# Altium schematic symbol library WR-BHD.SchLib: 220 symbols (part 3 of 5)
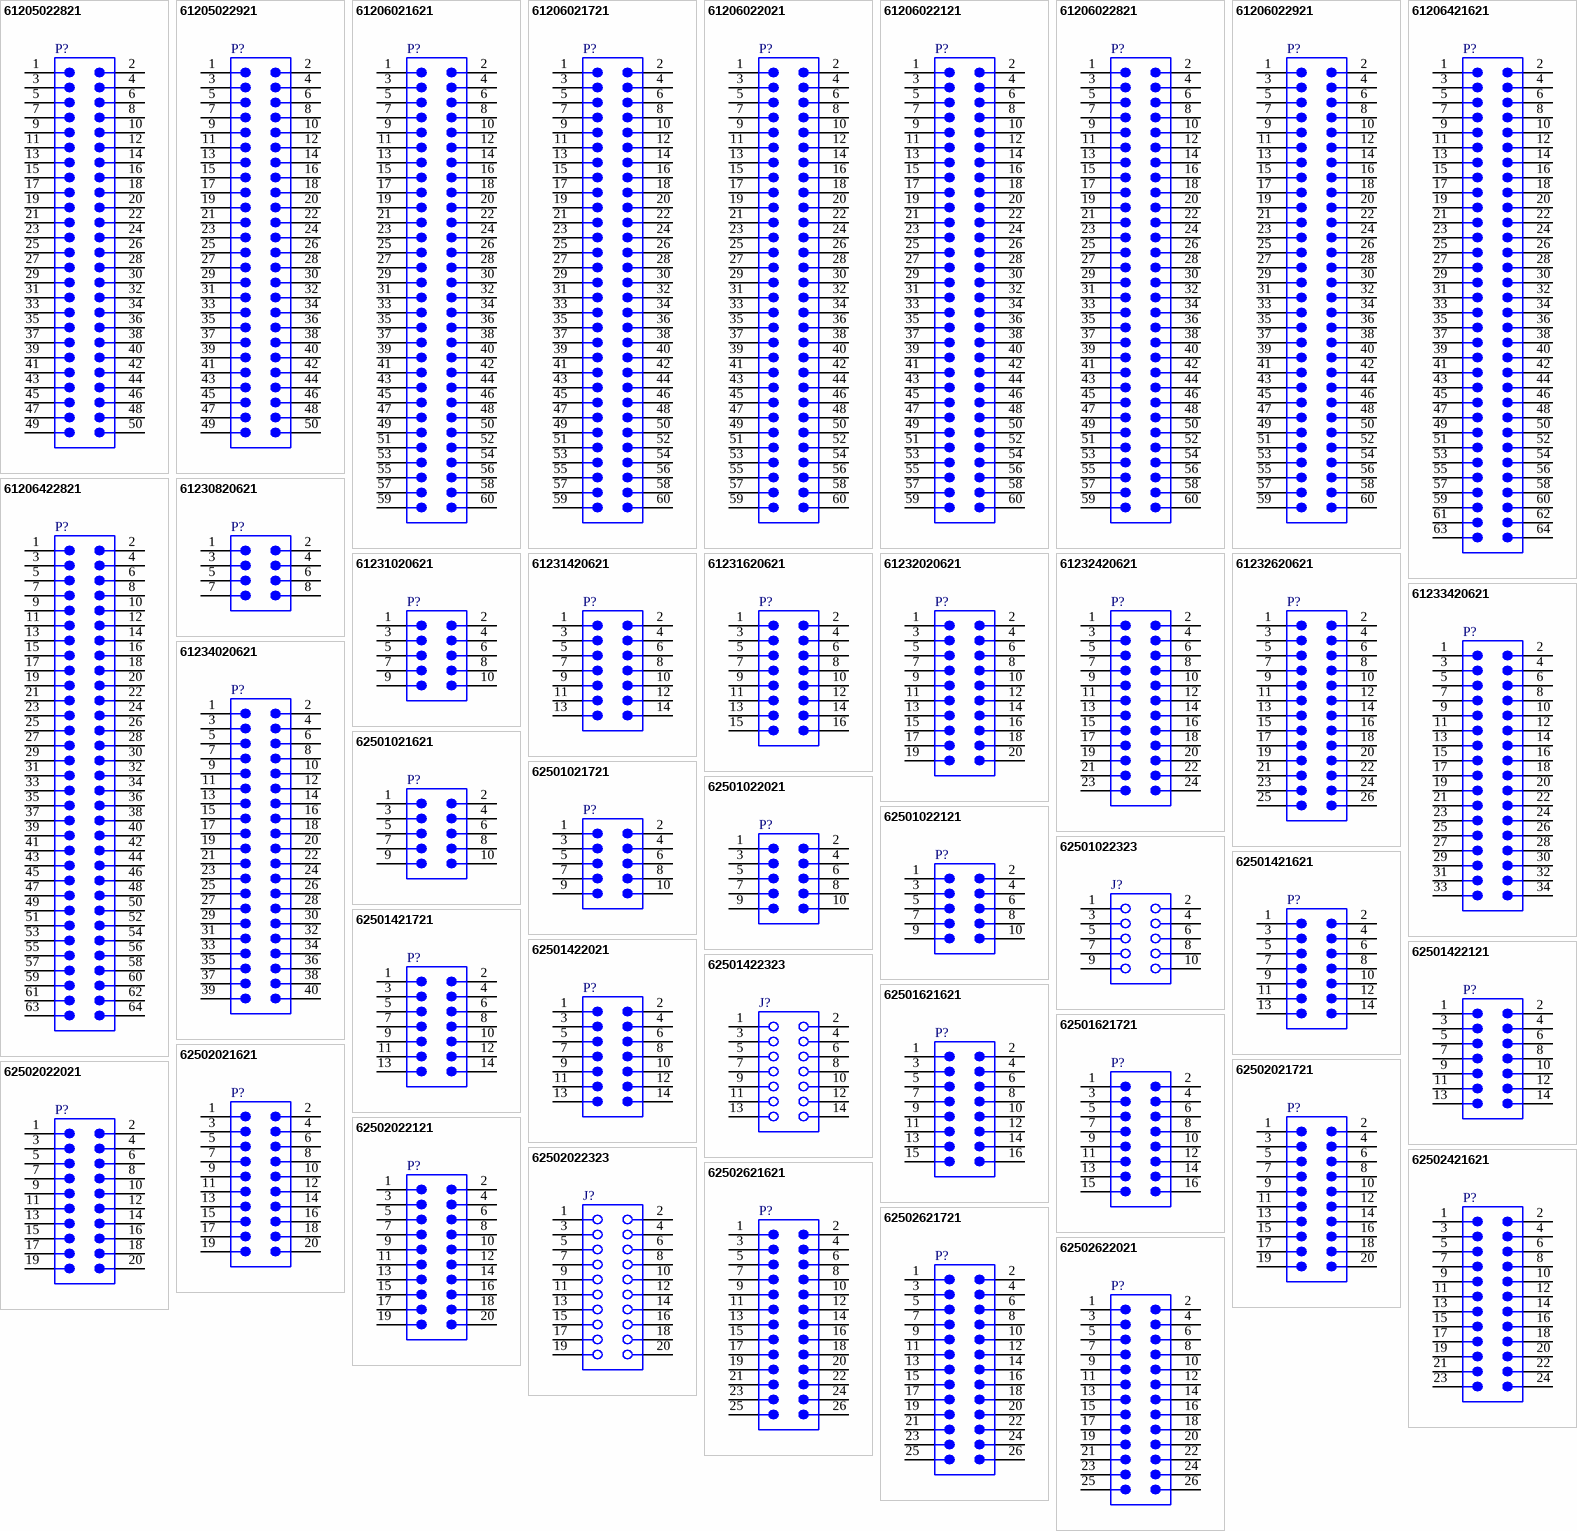
[diagram p7: symbols 61205022821 to 62502622021]

## 62501022121
designator P?  (value not drawn)
WR-BHD Male Box Header, THT Right Angle, pitch 2 mm, 2 Rows, 10 Pins; Manufacturer: Wurth Elektronik; Contact Resistance: 20 mΩ; Insulation Resistance: 1000 MΩ; Pitch: 2 mm; Rated Current: 2 A; Working Voltage: 250 V; Withstanding Voltage: 500 V; Manufacturer Part Number: 62501022121; Category: Wire-to-Board Connector; Connectors.Match Code: WR-BHD; ComponentLink1Description: Website Link; ComponentLink1URL: https://www.we-online.com/redexpert/article/62501022121?ad; ComponentLink2Description: Datasheet Link; ComponentLink2URL: https://www.we-online.com/redexpert/spec/62501022121?ad; Mount: Through Hole; Min Operating Temperature: -40 °C; Max Operating Temperature: 125 °C; Packaging: Tray; Length: 25.7 mm; Width: 16.85 mm; Height: 6 mm; Gender: Male; Number of Pins: 10; Number of Rows: 2; Orientation: Right Angle
footprint 62501022121
pins: 1, 2, 3, 4, 5, 6, 7, 8, 9, 10

## 62501022323
designator J?  (value not drawn)
WR-BHD Female Box Header, THT Straight, pitch 2 mm, 2 Rows, 10 Pins; Manufacturer: Wurth Elektronik; Contact Resistance: 20 mΩ; Insulation Resistance: 1000 MΩ; Pitch: 2 mm; Rated Current: 1 A; Working Voltage: 250 V; Withstanding Voltage: 500 V; Manufacturer Part Number: 62501022323; Category: Wire-to-Board Connector; Connectors.Match Code: WR-BHD; ComponentLink1Description: Website Link; ComponentLink1URL: https://www.we-online.com/redexpert/article/62501022323?ad; ComponentLink2Description: Datasheet Link; ComponentLink2URL: https://www.we-online.com/redexpert/spec/62501022323?ad; Mount: Through Hole; Min Operating Temperature: -40 °C; Max Operating Temperature: 125 °C; Packaging: Tray; Length: 14.1 mm; Width: 4 mm; Height: 5.3 mm; Gender: Female; Number of Pins: 10; Number of Rows: 2; Orientation: Straight
footprint 62501022323
pins: 1, 2, 3, 4, 5, 6, 7, 8, 9, 10

## 62501421621
designator P?  (value not drawn)
WR-BHD Male Box Header, THT Straight, pitch 2 mm, 2 Rows, 14 Pins; Manufacturer: Wurth Elektronik; Contact Resistance: 20 mΩ; Insulation Resistance: 1000 MΩ; Pitch: 2 mm; Rated Current: 2 A; Working Voltage: 250 V; Withstanding Voltage: 500 V; Manufacturer Part Number: 62501421621; Category: Wire-to-Board Connector; Connectors.Match Code: WR-BHD; ComponentLink1Description: Website Link; ComponentLink1URL: https://www.we-online.com/redexpert/article/62501421621?ad; ComponentLink2Description: Datasheet Link; ComponentLink2URL: https://www.we-online.com/redexpert/spec/62501421621?ad; Mount: Through Hole; Min Operating Temperature: -40 °C; Max Operating Temperature: 125 °C; Packaging: Tray; Length: 21.2 mm; Width: 5.5 mm; Height: 5.6 mm; Gender: Male; Number of Pins: 14; Number of Rows: 2; Orientation: Straight
footprint 62501421621
pins: 1, 2, 3, 4, 5, 6, 7, 8, 9, 10, 11, 12, 13, 14

## 62501421721
designator P?  (value not drawn)
WR-BHD Male Box Header, THT Right Angle, pitch 2 mm, 2 Rows, 14 Pins; Manufacturer: Wurth Elektronik; Contact Resistance: 20 mΩ; Insulation Resistance: 1000 MΩ; Pitch: 2 mm; Rated Current: 2 A; Working Voltage: 250 V; Withstanding Voltage: 500 V; Manufacturer Part Number: 62501421721; Category: Wire-to-Board Connector; Connectors.Match Code: WR-BHD; ComponentLink1Description: Website Link; ComponentLink1URL: https://www.we-online.com/redexpert/article/62501421721?ad; ComponentLink2Description: Datasheet Link; ComponentLink2URL: https://www.we-online.com/redexpert/spec/62501421721?ad; Mount: Through Hole; Min Operating Temperature: -40 °C; Max Operating Temperature: 105 °C; Packaging: Tray; Length: 21.25 mm; Width: 8.45 mm; Height: 5.5 mm; Gender: Male; Number of Pins: 14; Number of Rows: 2; Orientation: Right Angle
footprint 62501421721
pins: 1, 2, 3, 4, 5, 6, 7, 8, 9, 10, 11, 12, 13, 14

## 62501422021
designator P?  (value not drawn)
WR-BHD Male Box Header, THT Straight, pitch 2 mm, 2 Rows, 14 Pins; Manufacturer: Wurth Elektronik; Contact Resistance: 20 mΩ; Insulation Resistance: 1000 MΩ; Pitch: 2 mm; Rated Current: 2 A; Working Voltage: 250 V; Withstanding Voltage: 500 V; Manufacturer Part Number: 62501422021; Category: Wire-to-Board Connector; Connectors.Match Code: WR-BHD; ComponentLink1Description: Website Link; ComponentLink1URL: https://www.we-online.com/redexpert/article/62501422021?ad; ComponentLink2Description: Datasheet Link; ComponentLink2URL: https://www.we-online.com/redexpert/spec/62501422021?ad; Mount: Through Hole; Min Operating Temperature: -40 °C; Max Operating Temperature: 105 °C; Packaging: Tray; Length: 29.7 mm; Width: 6 mm; Height: 16.85 mm; Gender: Male; Number of Pins: 14; Number of Rows: 2; Orientation: Straight
footprint 62501422021
pins: 1, 2, 3, 4, 5, 6, 7, 8, 9, 10, 11, 12, 13, 14

## 62501422121
designator P?  (value not drawn)
WR-BHD Male Box Header, THT Right Angle, pitch 2 mm, 2 Rows, 14 Pins; Manufacturer: Wurth Elektronik; Contact Resistance: 20 mΩ; Insulation Resistance: 1000 MΩ; Pitch: 2 mm; Rated Current: 2 A; Working Voltage: 250 V; Withstanding Voltage: 500 V; Manufacturer Part Number: 62501422121; Category: Wire-to-Board Connector; Connectors.Match Code: WR-BHD; ComponentLink1Description: Website Link; ComponentLink1URL: https://www.we-online.com/redexpert/article/62501422121?ad; ComponentLink2Description: Datasheet Link; ComponentLink2URL: https://www.we-online.com/redexpert/spec/62501422121?ad; Mount: Through Hole; Min Operating Temperature: -40 °C; Max Operating Temperature: 125 °C; Packaging: Tray; Length: 29.7 mm; Width: 16.85 mm; Height: 6 mm; Gender: Male; Number of Pins: 14; Number of Rows: 2; Orientation: Right Angle
footprint 62501422121
pins: 1, 2, 3, 4, 5, 6, 7, 8, 9, 10, 11, 12, 13, 14

## 62501422323
designator J?  (value not drawn)
WR-BHD Female Box Header, THT Straight, pitch 2 mm, 2 Rows, 14 Pins; Manufacturer: Wurth Elektronik; Contact Resistance: 20 mΩ; Insulation Resistance: 1000 MΩ; Pitch: 2 mm; Rated Current: 1 A; Working Voltage: 250 V; Withstanding Voltage: 500 V; Manufacturer Part Number: 62501422323; Category: Wire-to-Board Connector; Connectors.Match Code: WR-BHD; ComponentLink1Description: Website Link; ComponentLink1URL: https://www.we-online.com/redexpert/article/62501422323?ad; ComponentLink2Description: Datasheet Link; ComponentLink2URL: https://www.we-online.com/redexpert/spec/62501422323?ad; Mount: Through Hole; Min Operating Temperature: -40 °C; Max Operating Temperature: 125 °C; Packaging: Tray; Length: 18.1 mm; Width: 4 mm; Height: 5.3 mm; Gender: Female; Number of Pins: 14; Number of Rows: 2; Orientation: Straight
footprint 62501422323
pins: 1, 2, 3, 4, 5, 6, 7, 8, 9, 10, 11, 12, 13, 14

## 62501621621
designator P?  (value not drawn)
WR-BHD Male Box Header, THT Straight, pitch 2 mm, 2 Rows, 16 Pins; Manufacturer: Wurth Elektronik; Contact Resistance: 20 mΩ; Insulation Resistance: 1000 MΩ; Pitch: 2 mm; Rated Current: 2 A; Working Voltage: 250 V; Withstanding Voltage: 500 V; Manufacturer Part Number: 62501621621; Category: Wire-to-Board Connector; Connectors.Match Code: WR-BHD; ComponentLink1Description: Website Link; ComponentLink1URL: https://www.we-online.com/redexpert/article/62501621621?ad; ComponentLink2Description: Datasheet Link; ComponentLink2URL: https://www.we-online.com/redexpert/spec/62501621621?ad; Mount: Through Hole; Min Operating Temperature: -40 °C; Max Operating Temperature: 125 °C; Packaging: Tray; Length: 23.2 mm; Width: 5.5 mm; Height: 5.6 mm; Gender: Male; Number of Pins: 16; Number of Rows: 2; Orientation: Straight
footprint 62501621621
pins: 1, 2, 3, 4, 5, 6, 7, 8, 9, 10, 11, 12, 13, 14, 15, 16

## 62501621721
designator P?  (value not drawn)
WR-BHD Male Box Header, THT Right Angle, pitch 2 mm, 2 Rows, 16 Pins; Manufacturer: Wurth Elektronik; Contact Resistance: 20 mΩ; Insulation Resistance: 1000 MΩ; Pitch: 2 mm; Rated Current: 2 A; Working Voltage: 250 V; Withstanding Voltage: 500 V; Manufacturer Part Number: 62501621721; Category: Wire-to-Board Connector; Connectors.Match Code: WR-BHD; ComponentLink1Description: Website Link; ComponentLink1URL: https://www.we-online.com/redexpert/article/62501621721?ad; ComponentLink2Description: Datasheet Link; ComponentLink2URL: https://www.we-online.com/redexpert/spec/62501621721?ad; Mount: Through Hole; Min Operating Temperature: -40 °C; Max Operating Temperature: 105 °C; Packaging: Tray; Length: 23.25 mm; Width: 8.45 mm; Height: 5.5 mm; Gender: Male; Number of Pins: 16; Number of Rows: 2; Orientation: Right Angle
footprint 62501621721
pins: 1, 2, 3, 4, 5, 6, 7, 8, 9, 10, 11, 12, 13, 14, 15, 16

## 62502021621
designator P?  (value not drawn)
WR-BHD Male Box Header, THT Straight, pitch 2 mm, 2 Rows, 20 Pins; Manufacturer: Wurth Elektronik; Contact Resistance: 20 mΩ; Insulation Resistance: 1000 MΩ; Pitch: 2 mm; Rated Current: 2 A; Working Voltage: 250 V; Withstanding Voltage: 500 V; Manufacturer Part Number: 62502021621; Category: Wire-to-Board Connector; Connectors.Match Code: WR-BHD; ComponentLink1Description: Website Link; ComponentLink1URL: https://www.we-online.com/redexpert/article/62502021621?ad; ComponentLink2Description: Datasheet Link; ComponentLink2URL: https://www.we-online.com/redexpert/spec/62502021621?ad; Mount: Through Hole; Min Operating Temperature: -40 °C; Max Operating Temperature: 125 °C; Packaging: Tray; Length: 27.2 mm; Width: 5.5 mm; Height: 5.6 mm; Gender: Male; Number of Pins: 20; Number of Rows: 2; Orientation: Straight
footprint 62502021621
pins: 1, 2, 3, 4, 5, 6, 7, 8, 9, 10, 11, 12, 13, 14, 15, 16, 17, 18, 19, 20

## 62502021721
designator P?  (value not drawn)
WR-BHD Male Box Header, THT Right Angle, pitch 2 mm, 2 Rows, 20 Pins; Manufacturer: Wurth Elektronik; Contact Resistance: 20 mΩ; Insulation Resistance: 1000 MΩ; Pitch: 2 mm; Rated Current: 2 A; Working Voltage: 250 V; Withstanding Voltage: 500 V; Manufacturer Part Number: 62502021721; Category: Wire-to-Board Connector; Connectors.Match Code: WR-BHD; ComponentLink1Description: Website Link; ComponentLink1URL: https://www.we-online.com/redexpert/article/62502021721?ad; ComponentLink2Description: Datasheet Link; ComponentLink2URL: https://www.we-online.com/redexpert/spec/62502021721?ad; Mount: Through Hole; Min Operating Temperature: -40 °C; Max Operating Temperature: 105 °C; Packaging: Tray; Length: 27.25 mm; Width: 8.45 mm; Height: 5.5 mm; Gender: Male; Number of Pins: 20; Number of Rows: 2; Orientation: Right Angle
footprint 62502021721
pins: 1, 2, 3, 4, 5, 6, 7, 8, 9, 10, 11, 12, 13, 14, 15, 16, 17, 18, 19, 20

## 62502022021
designator P?  (value not drawn)
WR-BHD Male Box Header, THT Straight, pitch 2 mm, 2 Rows, 20 Pins; Manufacturer: Wurth Elektronik; Contact Resistance: 20 mΩ; Insulation Resistance: 1000 MΩ; Pitch: 2 mm; Rated Current: 2 A; Working Voltage: 250 V; Withstanding Voltage: 500 V; Manufacturer Part Number: 62502022021; Category: Wire-to-Board Connector; Connectors.Match Code: WR-BHD; ComponentLink1Description: Website Link; ComponentLink1URL: https://www.we-online.com/redexpert/article/62502022021?ad; ComponentLink2Description: Datasheet Link; ComponentLink2URL: https://www.we-online.com/redexpert/spec/62502022021?ad; Mount: Through Hole; Min Operating Temperature: -40 °C; Max Operating Temperature: 105 °C; Packaging: Tray; Length: 35.7 mm; Width: 6 mm; Height: 16.85 mm; Gender: Male; Number of Pins: 20; Number of Rows: 2; Orientation: Straight
footprint 62502022021
pins: 1, 2, 3, 4, 5, 6, 7, 8, 9, 10, 11, 12, 13, 14, 15, 16, 17, 18, 19, 20

## 62502022121
designator P?  (value not drawn)
WR-BHD Male Box Header, THT Right Angle, pitch 2 mm, 2 Rows, 20 Pins; Manufacturer: Wurth Elektronik; Contact Resistance: 20 mΩ; Insulation Resistance: 1000 MΩ; Pitch: 2 mm; Rated Current: 2 A; Working Voltage: 250 V; Withstanding Voltage: 500 V; Manufacturer Part Number: 62502022121; Category: Wire-to-Board Connector; Connectors.Match Code: WR-BHD; ComponentLink1Description: Website Link; ComponentLink1URL: https://www.we-online.com/redexpert/article/62502022121?ad; ComponentLink2Description: Datasheet Link; ComponentLink2URL: https://www.we-online.com/redexpert/spec/62502022121?ad; Mount: Through Hole; Min Operating Temperature: -40 °C; Max Operating Temperature: 125 °C; Packaging: Tray; Length: 35.7 mm; Width: 16.85 mm; Height: 6 mm; Gender: Male; Number of Pins: 20; Number of Rows: 2; Orientation: Right Angle
footprint 62502022121
pins: 1, 2, 3, 4, 5, 6, 7, 8, 9, 10, 11, 12, 13, 14, 15, 16, 17, 18, 19, 20

## 62502022323
designator J?  (value not drawn)
WR-BHD Female Box Header, THT Straight, pitch 2 mm, 2 Rows, 20 Pins; Manufacturer: Wurth Elektronik; Contact Resistance: 20 mΩ; Insulation Resistance: 1000 MΩ; Pitch: 2 mm; Rated Current: 1 A; Working Voltage: 250 V; Withstanding Voltage: 500 V; Manufacturer Part Number: 62502022323; Category: Wire-to-Board Connector; Connectors.Match Code: WR-BHD; ComponentLink1Description: Website Link; ComponentLink1URL: https://www.we-online.com/redexpert/article/62502022323?ad; ComponentLink2Description: Datasheet Link; ComponentLink2URL: https://www.we-online.com/redexpert/spec/62502022323?ad; Mount: Through Hole; Min Operating Temperature: -40 °C; Max Operating Temperature: 125 °C; Packaging: Tray; Length: 24.1 mm; Width: 4 mm; Height: 5.3 mm; Gender: Female; Number of Pins: 20; Number of Rows: 2; Orientation: Straight
footprint 62502022323
pins: 1, 2, 3, 4, 5, 6, 7, 8, 9, 10, 11, 12, 13, 14, 15, 16, 17, 18, 19, 20

## 62502421621
designator P?  (value not drawn)
WR-BHD Male Box Header, THT Straight, pitch 2 mm, 2 Rows, 24 Pins; Manufacturer: Wurth Elektronik; Contact Resistance: 20 mΩ; Insulation Resistance: 1000 MΩ; Pitch: 2 mm; Rated Current: 2 A; Working Voltage: 250 V; Withstanding Voltage: 500 V; Manufacturer Part Number: 62502421621; Category: Wire-to-Board Connector; Connectors.Match Code: WR-BHD; ComponentLink1Description: Website Link; ComponentLink1URL: https://www.we-online.com/redexpert/article/62502421621?ad; ComponentLink2Description: Datasheet Link; ComponentLink2URL: https://www.we-online.com/redexpert/spec/62502421621?ad; Mount: Through Hole; Min Operating Temperature: -40 °C; Max Operating Temperature: 125 °C; Packaging: Tray; Length: 32.2 mm; Width: 5.5 mm; Height: 5.6 mm; Gender: Male; Number of Pins: 24; Number of Rows: 2; Orientation: Straight
footprint 62502421621
pins: 1, 2, 3, 4, 5, 6, 7, 8, 9, 10, 11, 12, 13, 14, 15, 16, 17, 18, 19, 20, 21, 22, 23, 24

## 62502621621
designator P?  (value not drawn)
WR-BHD Male Box Header, THT Straight, pitch 2 mm, 2 Rows, 26 Pins; Manufacturer: Wurth Elektronik; Contact Resistance: 20 mΩ; Insulation Resistance: 1000 MΩ; Pitch: 2 mm; Rated Current: 2 A; Working Voltage: 250 V; Withstanding Voltage: 500 V; Manufacturer Part Number: 62502621621; Category: Wire-to-Board Connector; Connectors.Match Code: WR-BHD; ComponentLink1Description: Website Link; ComponentLink1URL: https://www.we-online.com/redexpert/article/62502621621?ad; ComponentLink2Description: Datasheet Link; ComponentLink2URL: https://www.we-online.com/redexpert/spec/62502621621?ad; Mount: Through Hole; Min Operating Temperature: -40 °C; Max Operating Temperature: 125 °C; Packaging: Tray; Length: 33.2 mm; Width: 5.5 mm; Height: 5.6 mm; Gender: Male; Number of Pins: 26; Number of Rows: 2; Orientation: Straight
footprint 62502621621
pins: 1, 2, 3, 4, 5, 6, 7, 8, 9, 10, 11, 12, 13, 14, 15, 16, 17, 18, 19, 20, 21, 22, 23, 24, 25, 26

## 62502621721
designator P?  (value not drawn)
WR-BHD Male Box Header, THT Right Angle, pitch 2 mm, 2 Rows, 26 Pins; Manufacturer: Wurth Elektronik; Contact Resistance: 20 mΩ; Insulation Resistance: 1000 MΩ; Pitch: 2 mm; Rated Current: 2 A; Working Voltage: 250 V; Withstanding Voltage: 500 V; Manufacturer Part Number: 62502621721; Category: Wire-to-Board Connector; Connectors.Match Code: WR-BHD; ComponentLink1Description: Website Link; ComponentLink1URL: https://www.we-online.com/redexpert/article/62502621721?ad; ComponentLink2Description: Datasheet Link; ComponentLink2URL: https://www.we-online.com/redexpert/spec/62502621721?ad; Mount: Through Hole; Min Operating Temperature: -40 °C; Max Operating Temperature: 105 °C; Packaging: Tray; Length: 33.25 mm; Width: 8.45 mm; Height: 5.5 mm; Gender: Male; Number of Pins: 26; Number of Rows: 2; Orientation: Right Angle
footprint 62502621721
pins: 1, 2, 3, 4, 5, 6, 7, 8, 9, 10, 11, 12, 13, 14, 15, 16, 17, 18, 19, 20, 21, 22, 23, 24, 25, 26

## 62502622021
designator P?  (value not drawn)
WR-BHD Male Box Header, THT Straight, pitch 2 mm, 2 Rows, 26 Pins; Manufacturer: Wurth Elektronik; Contact Resistance: 20 mΩ; Insulation Resistance: 1000 MΩ; Pitch: 2 mm; Rated Current: 2 A; Working Voltage: 250 V; Withstanding Voltage: 500 V; Manufacturer Part Number: 62502622021; Category: Wire-to-Board Connector; Connectors.Match Code: WR-BHD; ComponentLink1Description: Website Link; ComponentLink1URL: https://www.we-online.com/redexpert/article/62502622021?ad; ComponentLink2Description: Datasheet Link; ComponentLink2URL: https://www.we-online.com/redexpert/spec/62502622021?ad; Mount: Through Hole; Min Operating Temperature: -40 °C; Max Operating Temperature: 105 °C; Packaging: Tray; Length: 41.7 mm; Width: 6 mm; Height: 16.85 mm; Gender: Male; Number of Pins: 26; Number of Rows: 2; Orientation: Straight
footprint 62502622021
pins: 1, 2, 3, 4, 5, 6, 7, 8, 9, 10, 11, 12, 13, 14, 15, 16, 17, 18, 19, 20, 21, 22, 23, 24, 25, 26

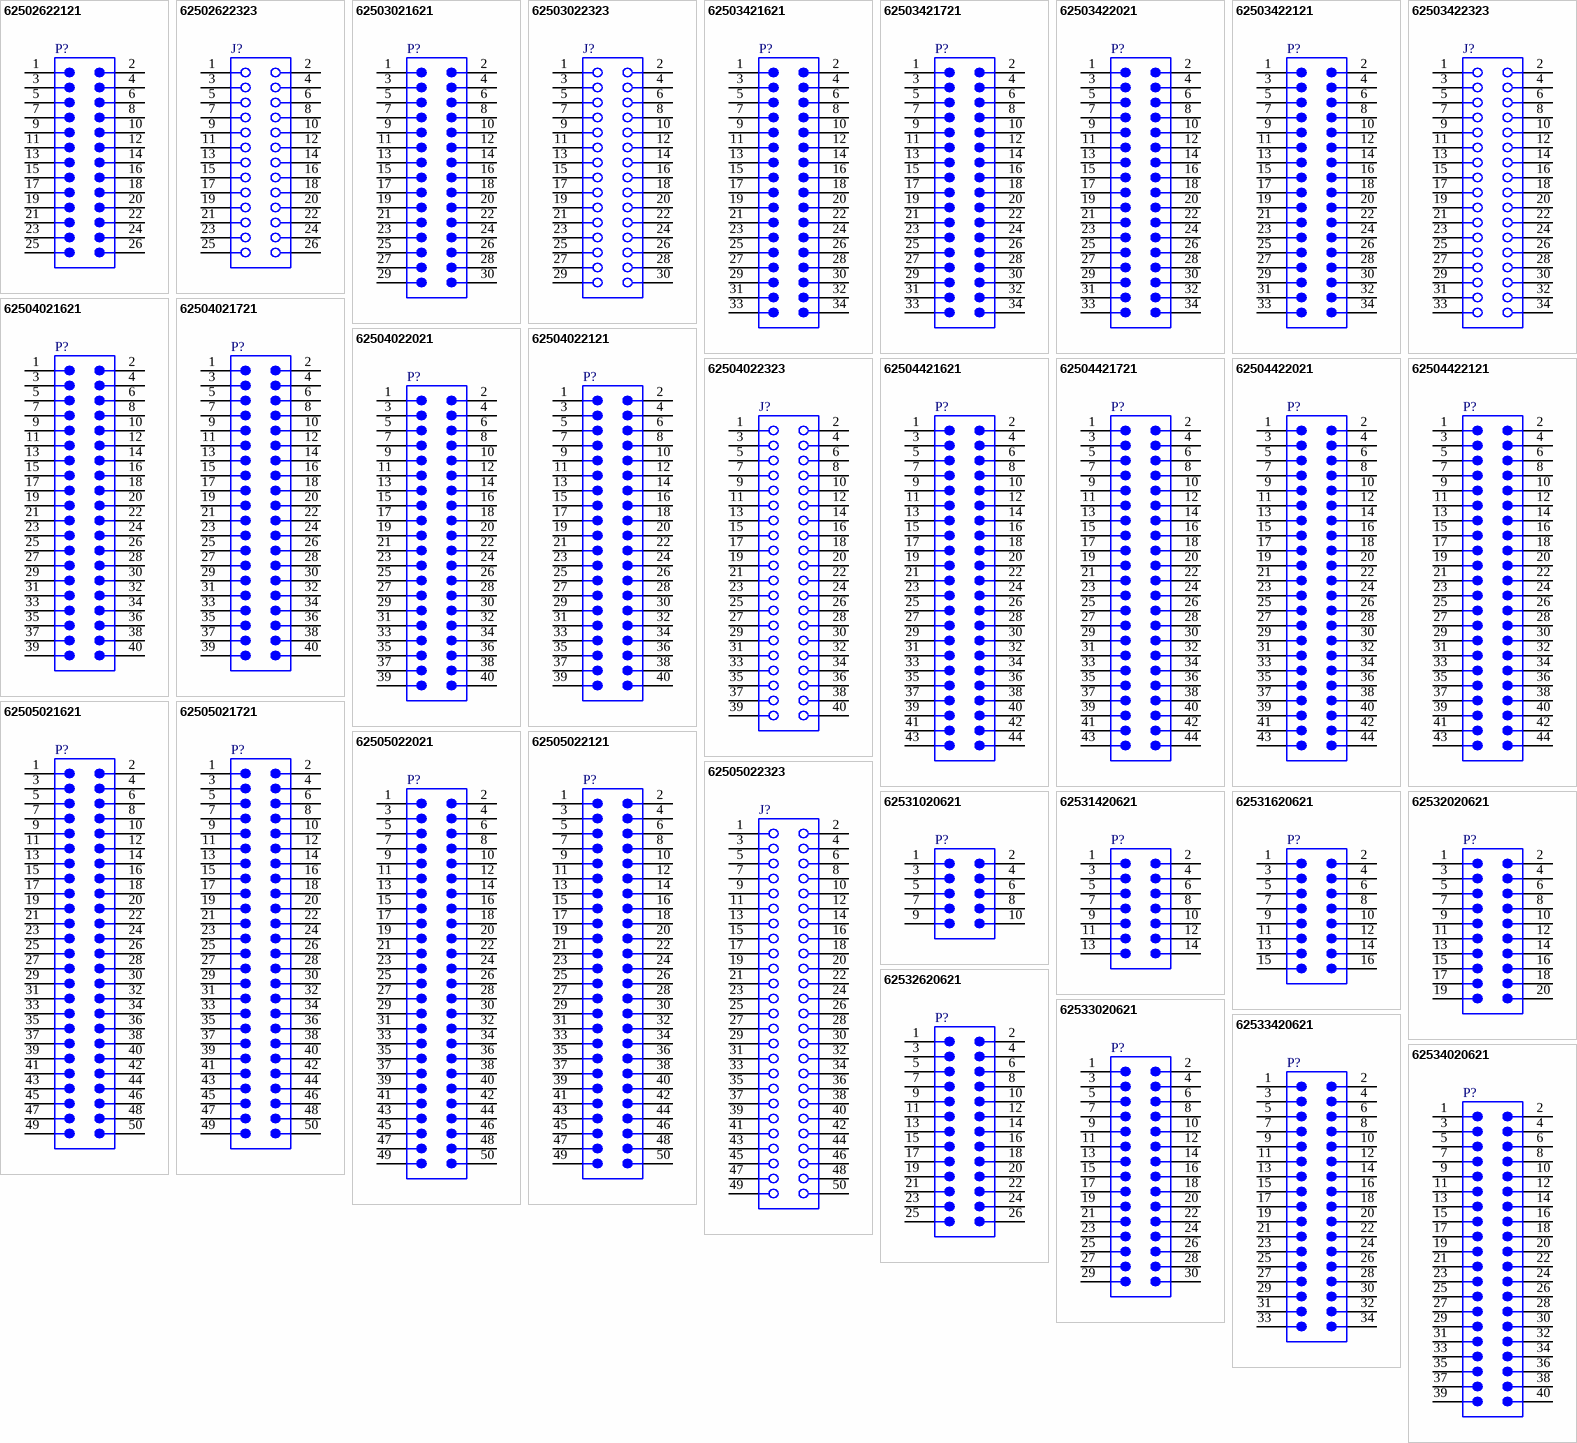
[diagram p3: symbols 62502622121 to 62534020621]

## 62502622121
designator P?  (value not drawn)
WR-BHD Male Box Header, THT Right Angle, pitch 2 mm, 2 Rows, 26 Pins; Manufacturer: Wurth Elektronik; Contact Resistance: 20 mΩ; Insulation Resistance: 1000 MΩ; Pitch: 2 mm; Rated Current: 2 A; Working Voltage: 250 V; Withstanding Voltage: 500 V; Manufacturer Part Number: 62502622121; Category: Wire-to-Board Connector; Connectors.Match Code: WR-BHD; ComponentLink1Description: Website Link; ComponentLink1URL: https://www.we-online.com/redexpert/article/62502622121?ad; ComponentLink2Description: Datasheet Link; ComponentLink2URL: https://www.we-online.com/redexpert/spec/62502622121?ad; Mount: Through Hole; Min Operating Temperature: -40 °C; Max Operating Temperature: 125 °C; Packaging: Tray; Length: 41.7 mm; Width: 16.85 mm; Height: 6 mm; Gender: Male; Number of Pins: 26; Number of Rows: 2; Orientation: Right Angle
footprint 62502622121
pins: 1, 2, 3, 4, 5, 6, 7, 8, 9, 10, 11, 12, 13, 14, 15, 16, 17, 18, 19, 20, 21, 22, 23, 24, 25, 26

## 62502622323
designator J?  (value not drawn)
WR-BHD Female Box Header, THT Straight, pitch 2 mm, 2 Rows, 26 Pins; Manufacturer: Wurth Elektronik; Contact Resistance: 20 mΩ; Insulation Resistance: 1000 MΩ; Pitch: 2 mm; Rated Current: 1 A; Working Voltage: 250 V; Withstanding Voltage: 500 V; Manufacturer Part Number: 62502622323; Category: Wire-to-Board Connector; Connectors.Match Code: WR-BHD; ComponentLink1Description: Website Link; ComponentLink1URL: https://www.we-online.com/redexpert/article/62502622323?ad; ComponentLink2Description: Datasheet Link; ComponentLink2URL: https://www.we-online.com/redexpert/spec/62502622323?ad; Mount: Through Hole; Min Operating Temperature: -40 °C; Max Operating Temperature: 125 °C; Packaging: Tray; Length: 30.1 mm; Width: 4 mm; Height: 5.3 mm; Gender: Female; Number of Pins: 26; Number of Rows: 2; Orientation: Straight
footprint 62502622323
pins: 1, 2, 3, 4, 5, 6, 7, 8, 9, 10, 11, 12, 13, 14, 15, 16, 17, 18, 19, 20, 21, 22, 23, 24, 25, 26

## 62503021621
designator P?  (value not drawn)
WR-BHD Male Box Header, THT Straight, pitch 2 mm, 2 Rows, 30 Pins; Manufacturer: Wurth Elektronik; Contact Resistance: 20 mΩ; Insulation Resistance: 1000 MΩ; Pitch: 2 mm; Rated Current: 2 A; Working Voltage: 250 V; Withstanding Voltage: 500 V; Manufacturer Part Number: 62503021621; Category: Wire-to-Board Connector; Connectors.Match Code: WR-BHD; ComponentLink1Description: Website Link; ComponentLink1URL: https://www.we-online.com/redexpert/article/62503021621?ad; ComponentLink2Description: Datasheet Link; ComponentLink2URL: https://www.we-online.com/redexpert/spec/62503021621?ad; Mount: Through Hole; Min Operating Temperature: -40 °C; Max Operating Temperature: 125 °C; Packaging: Tray; Length: 37.2 mm; Width: 5.5 mm; Height: 5.6 mm; Gender: Male; Number of Pins: 30; Number of Rows: 2; Orientation: Straight
footprint 62503021621
pins: 1, 2, 3, 4, 5, 6, 7, 8, 9, 10, 11, 12, 13, 14, 15, 16, 17, 18, 19, 20, 21, 22, 23, 24, 25, 26, 27, 28, 29, 30

## 62503022323
designator J?  (value not drawn)
WR-BHD Female Box Header, THT Straight, pitch 2 mm, 2 Rows, 30 Pins; Manufacturer: Wurth Elektronik; Contact Resistance: 20 mΩ; Insulation Resistance: 1000 MΩ; Pitch: 2 mm; Rated Current: 1 A; Working Voltage: 250 V; Withstanding Voltage: 500 V; Manufacturer Part Number: 62503022323; Category: Wire-to-Board Connector; Connectors.Match Code: WR-BHD; ComponentLink1Description: Website Link; ComponentLink1URL: https://www.we-online.com/redexpert/article/62503022323?ad; ComponentLink2Description: Datasheet Link; ComponentLink2URL: https://www.we-online.com/redexpert/spec/62503022323?ad; Mount: Through Hole; Min Operating Temperature: -40 °C; Max Operating Temperature: 125 °C; Packaging: Tray; Length: 34.1 mm; Width: 4 mm; Height: 5.3 mm; Gender: Female; Number of Pins: 30; Number of Rows: 2; Orientation: Straight
footprint 62503022323
pins: 1, 2, 3, 4, 5, 6, 7, 8, 9, 10, 11, 12, 13, 14, 15, 16, 17, 18, 19, 20, 21, 22, 23, 24, 25, 26, 27, 28, 29, 30

## 62503421621
designator P?  (value not drawn)
WR-BHD Male Box Header, THT Straight, pitch 2 mm, 2 Rows, 34 Pins; Manufacturer: Wurth Elektronik; Contact Resistance: 20 mΩ; Insulation Resistance: 1000 MΩ; Pitch: 2 mm; Rated Current: 2 A; Working Voltage: 250 V; Withstanding Voltage: 500 V; Manufacturer Part Number: 62503421621; Category: Wire-to-Board Connector; Connectors.Match Code: WR-BHD; ComponentLink1Description: Website Link; ComponentLink1URL: https://www.we-online.com/redexpert/article/62503421621?ad; ComponentLink2Description: Datasheet Link; ComponentLink2URL: https://www.we-online.com/redexpert/spec/62503421621?ad; Mount: Through Hole; Min Operating Temperature: -40 °C; Max Operating Temperature: 125 °C; Packaging: Tray; Length: 41.2 mm; Width: 5.5 mm; Height: 5.6 mm; Gender: Male; Number of Pins: 34; Number of Rows: 2; Orientation: Straight
footprint 62503421621
pins: 1, 2, 3, 4, 5, 6, 7, 8, 9, 10, 11, 12, 13, 14, 15, 16, 17, 18, 19, 20, 21, 22, 23, 24, 25, 26, 27, 28, 29, 30, 31, 32, 33, 34

## 62503421721
designator P?  (value not drawn)
WR-BHD Male Box Header, THT Right Angle, pitch 2 mm, 2 Rows, 34 Pins; Manufacturer: Wurth Elektronik; Contact Resistance: 20 mΩ; Insulation Resistance: 1000 MΩ; Pitch: 2 mm; Rated Current: 2 A; Working Voltage: 250 V; Withstanding Voltage: 500 V; Manufacturer Part Number: 62503421721; Category: Wire-to-Board Connector; Connectors.Match Code: WR-BHD; ComponentLink1Description: Website Link; ComponentLink1URL: https://www.we-online.com/redexpert/article/62503421721?ad; ComponentLink2Description: Datasheet Link; ComponentLink2URL: https://www.we-online.com/redexpert/spec/62503421721?ad; Mount: Through Hole; Min Operating Temperature: -40 °C; Max Operating Temperature: 105 °C; Packaging: Tray; Length: 41.25 mm; Width: 8.45 mm; Height: 5.5 mm; Gender: Male; Number of Pins: 34; Number of Rows: 2; Orientation: Right Angle
footprint 62503421721
pins: 1, 2, 3, 4, 5, 6, 7, 8, 9, 10, 11, 12, 13, 14, 15, 16, 17, 18, 19, 20, 21, 22, 23, 24, 25, 26, 27, 28, 29, 30, 31, 32, 33, 34

## 62503422021
designator P?  (value not drawn)
WR-BHD Male Box Header, THT Straight, pitch 2 mm, 2 Rows, 34 Pins; Manufacturer: Wurth Elektronik; Contact Resistance: 20 mΩ; Insulation Resistance: 1000 MΩ; Pitch: 2 mm; Rated Current: 2 A; Working Voltage: 250 V; Withstanding Voltage: 500 V; Manufacturer Part Number: 62503422021; Category: Wire-to-Board Connector; Connectors.Match Code: WR-BHD; ComponentLink1Description: Website Link; ComponentLink1URL: https://www.we-online.com/redexpert/article/62503422021?ad; ComponentLink2Description: Datasheet Link; ComponentLink2URL: https://www.we-online.com/redexpert/spec/62503422021?ad; Mount: Through Hole; Min Operating Temperature: -40 °C; Max Operating Temperature: 105 °C; Packaging: Tray; Length: 49.7 mm; Width: 6 mm; Height: 16.85 mm; Gender: Male; Number of Pins: 34; Number of Rows: 2; Orientation: Straight
footprint 62503422021
pins: 1, 2, 3, 4, 5, 6, 7, 8, 9, 10, 11, 12, 13, 14, 15, 16, 17, 18, 19, 20, 21, 22, 23, 24, 25, 26, 27, 28, 29, 30, 31, 32, 33, 34

## 62503422121
designator P?  (value not drawn)
WR-BHD Male Box Header, THT Right Angle, pitch 2 mm, 2 Rows, 34 Pins; Manufacturer: Wurth Elektronik; Contact Resistance: 20 mΩ; Insulation Resistance: 1000 MΩ; Pitch: 2 mm; Rated Current: 2 A; Working Voltage: 250 V; Withstanding Voltage: 500 V; Manufacturer Part Number: 62503422121; Category: Wire-to-Board Connector; Connectors.Match Code: WR-BHD; ComponentLink1Description: Website Link; ComponentLink1URL: https://www.we-online.com/redexpert/article/62503422121?ad; ComponentLink2Description: Datasheet Link; ComponentLink2URL: https://www.we-online.com/redexpert/spec/62503422121?ad; Mount: Through Hole; Min Operating Temperature: -40 °C; Max Operating Temperature: 125 °C; Packaging: Tray; Length: 49.7 mm; Width: 16.85 mm; Height: 6 mm; Gender: Male; Number of Pins: 34; Number of Rows: 2; Orientation: Right Angle
footprint 62503422121
pins: 1, 2, 3, 4, 5, 6, 7, 8, 9, 10, 11, 12, 13, 14, 15, 16, 17, 18, 19, 20, 21, 22, 23, 24, 25, 26, 27, 28, 29, 30, 31, 32, 33, 34

## 62503422323
designator J?  (value not drawn)
WR-BHD Female Box Header, THT Straight, pitch 2 mm, 2 Rows, 34 Pins; Manufacturer: Wurth Elektronik; Contact Resistance: 20 mΩ; Insulation Resistance: 1000 MΩ; Pitch: 2 mm; Rated Current: 1 A; Working Voltage: 250 V; Withstanding Voltage: 500 V; Manufacturer Part Number: 62503422323; Category: Wire-to-Board Connector; Connectors.Match Code: WR-BHD; ComponentLink1Description: Website Link; ComponentLink1URL: https://www.we-online.com/redexpert/article/62503422323?ad; ComponentLink2Description: Datasheet Link; ComponentLink2URL: https://www.we-online.com/redexpert/spec/62503422323?ad; Mount: Through Hole; Min Operating Temperature: -40 °C; Max Operating Temperature: 125 °C; Packaging: Tray; Length: 38.1 mm; Width: 4 mm; Height: 5.3 mm; Gender: Female; Number of Pins: 34; Number of Rows: 2; Orientation: Straight
footprint 62503422323
pins: 1, 2, 3, 4, 5, 6, 7, 8, 9, 10, 11, 12, 13, 14, 15, 16, 17, 18, 19, 20, 21, 22, 23, 24, 25, 26, 27, 28, 29, 30, 31, 32, 33, 34

## 62504021621
designator P?  (value not drawn)
WR-BHD Male Box Header, THT Straight, pitch 2 mm, 2 Rows, 40 Pins; Manufacturer: Wurth Elektronik; Contact Resistance: 20 mΩ; Insulation Resistance: 1000 MΩ; Pitch: 2 mm; Rated Current: 2 A; Working Voltage: 250 V; Withstanding Voltage: 500 V; Manufacturer Part Number: 62504021621; Category: Wire-to-Board Connector; Connectors.Match Code: WR-BHD; ComponentLink1Description: Website Link; ComponentLink1URL: https://www.we-online.com/redexpert/article/62504021621?ad; ComponentLink2Description: Datasheet Link; ComponentLink2URL: https://www.we-online.com/redexpert/spec/62504021621?ad; Mount: Through Hole; Min Operating Temperature: -40 °C; Max Operating Temperature: 125 °C; Packaging: Tray; Length: 47.2 mm; Width: 5.5 mm; Height: 5.6 mm; Gender: Male; Number of Pins: 40; Number of Rows: 2; Orientation: Straight
footprint 62504021621
pins: 1, 2, 3, 4, 5, 6, 7, 8, 9, 10, 11, 12, 13, 14, 15, 16, 17, 18, 19, 20, 21, 22, 23, 24, 25, 26, 27, 28, 29, 30, 31, 32, 33, 34, 35, 36, 37, 38, 39, 40

## 62504021721
designator P?  (value not drawn)
WR-BHD Male Box Header, THT Right Angle, pitch 2 mm, 2 Rows, 40 Pins; Manufacturer: Wurth Elektronik; Contact Resistance: 20 mΩ; Insulation Resistance: 1000 MΩ; Pitch: 2 mm; Rated Current: 2 A; Working Voltage: 250 V; Withstanding Voltage: 500 V; Manufacturer Part Number: 62504021721; Category: Wire-to-Board Connector; Connectors.Match Code: WR-BHD; ComponentLink1Description: Website Link; ComponentLink1URL: https://www.we-online.com/redexpert/article/62504021721?ad; ComponentLink2Description: Datasheet Link; ComponentLink2URL: https://www.we-online.com/redexpert/spec/62504021721?ad; Mount: Through Hole; Min Operating Temperature: -40 °C; Max Operating Temperature: 105 °C; Packaging: Tray; Length: 47.25 mm; Width: 8.45 mm; Height: 5.5 mm; Gender: Male; Number of Pins: 40; Number of Rows: 2; Orientation: Right Angle
footprint 62504021721
pins: 1, 2, 3, 4, 5, 6, 7, 8, 9, 10, 11, 12, 13, 14, 15, 16, 17, 18, 19, 20, 21, 22, 23, 24, 25, 26, 27, 28, 29, 30, 31, 32, 33, 34, 35, 36, 37, 38, 39, 40

## 62504022021
designator P?  (value not drawn)
WR-BHD Male Box Header, THT Straight, pitch 2 mm, 2 Rows, 40 Pins; Manufacturer: Wurth Elektronik; Contact Resistance: 20 mΩ; Insulation Resistance: 1000 MΩ; Pitch: 2 mm; Rated Current: 2 A; Working Voltage: 250 V; Withstanding Voltage: 500 V; Manufacturer Part Number: 62504022021; Category: Wire-to-Board Connector; Connectors.Match Code: WR-BHD; ComponentLink1Description: Website Link; ComponentLink1URL: https://www.we-online.com/redexpert/article/62504022021?ad; ComponentLink2Description: Datasheet Link; ComponentLink2URL: https://www.we-online.com/redexpert/spec/62504022021?ad; Mount: Through Hole; Min Operating Temperature: -40 °C; Max Operating Temperature: 105 °C; Packaging: Tray; Length: 55.7 mm; Width: 6 mm; Height: 16.85 mm; Gender: Male; Number of Pins: 40; Number of Rows: 2; Orientation: Straight
footprint 62504022021
pins: 1, 2, 3, 4, 5, 6, 7, 8, 9, 10, 11, 12, 13, 14, 15, 16, 17, 18, 19, 20, 21, 22, 23, 24, 25, 26, 27, 28, 29, 30, 31, 32, 33, 34, 35, 36, 37, 38, 39, 40

## 62504022121
designator P?  (value not drawn)
WR-BHD Male Box Header, THT Right Angle, pitch 2 mm, 2 Rows, 40 Pins; Manufacturer: Wurth Elektronik; Contact Resistance: 20 mΩ; Insulation Resistance: 1000 MΩ; Pitch: 2 mm; Rated Current: 2 A; Working Voltage: 250 V; Withstanding Voltage: 500 V; Manufacturer Part Number: 62504022121; Category: Wire-to-Board Connector; Connectors.Match Code: WR-BHD; ComponentLink1Description: Website Link; ComponentLink1URL: https://www.we-online.com/redexpert/article/62504022121?ad; ComponentLink2Description: Datasheet Link; ComponentLink2URL: https://www.we-online.com/redexpert/spec/62504022121?ad; Mount: Through Hole; Min Operating Temperature: -40 °C; Max Operating Temperature: 125 °C; Packaging: Tray; Length: 55.7 mm; Width: 16.85 mm; Height: 6 mm; Gender: Male; Number of Pins: 40; Number of Rows: 2; Orientation: Right Angle
footprint 62504022121
pins: 1, 2, 3, 4, 5, 6, 7, 8, 9, 10, 11, 12, 13, 14, 15, 16, 17, 18, 19, 20, 21, 22, 23, 24, 25, 26, 27, 28, 29, 30, 31, 32, 33, 34, 35, 36, 37, 38, 39, 40

## 62504022323
designator J?  (value not drawn)
WR-BHD Female Box Header, THT Straight, pitch 2 mm, 2 Rows, 40 Pins; Manufacturer: Wurth Elektronik; Contact Resistance: 20 mΩ; Insulation Resistance: 1000 MΩ; Pitch: 2 mm; Rated Current: 1 A; Working Voltage: 250 V; Withstanding Voltage: 500 V; Manufacturer Part Number: 62504022323; Category: Wire-to-Board Connector; Connectors.Match Code: WR-BHD; ComponentLink1Description: Website Link; ComponentLink1URL: https://www.we-online.com/redexpert/article/62504022323?ad; ComponentLink2Description: Datasheet Link; ComponentLink2URL: https://www.we-online.com/redexpert/spec/62504022323?ad; Mount: Through Hole; Min Operating Temperature: -40 °C; Max Operating Temperature: 125 °C; Packaging: Tray; Length: 44.1 mm; Width: 4 mm; Height: 5.3 mm; Gender: Female; Number of Pins: 40; Number of Rows: 2; Orientation: Straight
footprint 62504022323
pins: 1, 2, 3, 4, 5, 6, 7, 8, 9, 10, 11, 12, 13, 14, 15, 16, 17, 18, 19, 20, 21, 22, 23, 24, 25, 26, 27, 28, 29, 30, 31, 32, 33, 34, 35, 36, 37, 38, 39, 40

## 62504421621
designator P?  (value not drawn)
WR-BHD Male Box Header, THT Straight, pitch 2 mm, 2 Rows, 44 Pins; Manufacturer: Wurth Elektronik; Contact Resistance: 20 mΩ; Insulation Resistance: 1000 MΩ; Pitch: 2 mm; Rated Current: 2 A; Working Voltage: 250 V; Withstanding Voltage: 500 V; Manufacturer Part Number: 62504421621; Category: Wire-to-Board Connector; Connectors.Match Code: WR-BHD; ComponentLink1Description: Website Link; ComponentLink1URL: https://www.we-online.com/redexpert/article/62504421621?ad; ComponentLink2Description: Datasheet Link; ComponentLink2URL: https://www.we-online.com/redexpert/spec/62504421621?ad; Mount: Through Hole; Min Operating Temperature: -40 °C; Max Operating Temperature: 125 °C; Packaging: Tray; Length: 51.2 mm; Width: 5.5 mm; Height: 5.6 mm; Gender: Male; Number of Pins: 44; Number of Rows: 2; Orientation: Straight
footprint 62504421621
pins: 1, 2, 3, 4, 5, 6, 7, 8, 9, 10, 11, 12, 13, 14, 15, 16, 17, 18, 19, 20, 21, 22, 23, 24, 25, 26, 27, 28, 29, 30, 31, 32, 33, 34, 35, 36, 37, 38, 39, 40, 41, 42, 43, 44

## 62504421721
designator P?  (value not drawn)
WR-BHD Male Box Header, THT Right Angle, pitch 2 mm, 2 Rows, 44 Pins; Manufacturer: Wurth Elektronik; Contact Resistance: 20 mΩ; Insulation Resistance: 1000 MΩ; Pitch: 2 mm; Rated Current: 2 A; Working Voltage: 250 V; Withstanding Voltage: 500 V; Manufacturer Part Number: 62504421721; Category: Wire-to-Board Connector; Connectors.Match Code: WR-BHD; ComponentLink1Description: Website Link; ComponentLink1URL: https://www.we-online.com/redexpert/article/62504421721?ad; ComponentLink2Description: Datasheet Link; ComponentLink2URL: https://www.we-online.com/redexpert/spec/62504421721?ad; Mount: Through Hole; Min Operating Temperature: -40 °C; Max Operating Temperature: 105 °C; Packaging: Tray; Length: 51.25 mm; Width: 8.45 mm; Height: 5.5 mm; Gender: Male; Number of Pins: 44; Number of Rows: 2; Orientation: Right Angle
footprint 62504421721
pins: 1, 2, 3, 4, 5, 6, 7, 8, 9, 10, 11, 12, 13, 14, 15, 16, 17, 18, 19, 20, 21, 22, 23, 24, 25, 26, 27, 28, 29, 30, 31, 32, 33, 34, 35, 36, 37, 38, 39, 40, 41, 42, 43, 44

## 62504422021
designator P?  (value not drawn)
WR-BHD Male Box Header, THT Straight, pitch 2 mm, 2 Rows, 44 Pins; Manufacturer: Wurth Elektronik; Contact Resistance: 20 mΩ; Insulation Resistance: 1000 MΩ; Pitch: 2 mm; Rated Current: 2 A; Working Voltage: 250 V; Withstanding Voltage: 500 V; Manufacturer Part Number: 62504422021; Category: Wire-to-Board Connector; Connectors.Match Code: WR-BHD; ComponentLink1Description: Website Link; ComponentLink1URL: https://www.we-online.com/redexpert/article/62504422021?ad; ComponentLink2Description: Datasheet Link; ComponentLink2URL: https://www.we-online.com/redexpert/spec/62504422021?ad; Mount: Through Hole; Min Operating Temperature: -40 °C; Max Operating Temperature: 105 °C; Packaging: Tray; Length: 59.7 mm; Width: 6 mm; Height: 16.85 mm; Gender: Male; Number of Pins: 44; Number of Rows: 2; Orientation: Straight
footprint 62504422021
pins: 1, 2, 3, 4, 5, 6, 7, 8, 9, 10, 11, 12, 13, 14, 15, 16, 17, 18, 19, 20, 21, 22, 23, 24, 25, 26, 27, 28, 29, 30, 31, 32, 33, 34, 35, 36, 37, 38, 39, 40, 41, 42, 43, 44

## 62504422121
designator P?  (value not drawn)
WR-BHD Male Box Header, THT Right Angle, pitch 2 mm, 2 Rows, 44 Pins; Manufacturer: Wurth Elektronik; Contact Resistance: 20 mΩ; Insulation Resistance: 1000 MΩ; Pitch: 2 mm; Rated Current: 2 A; Working Voltage: 250 V; Withstanding Voltage: 500 V; Manufacturer Part Number: 62504422121; Category: Wire-to-Board Connector; Connectors.Match Code: WR-BHD; ComponentLink1Description: Website Link; ComponentLink1URL: https://www.we-online.com/redexpert/article/62504422121?ad; ComponentLink2Description: Datasheet Link; ComponentLink2URL: https://www.we-online.com/redexpert/spec/62504422121?ad; Mount: Through Hole; Min Operating Temperature: -40 °C; Max Operating Temperature: 125 °C; Packaging: Tray; Length: 59.7 mm; Width: 16.85 mm; Height: 6 mm; Gender: Male; Number of Pins: 44; Number of Rows: 2; Orientation: Right Angle
footprint 62504422121
pins: 1, 2, 3, 4, 5, 6, 7, 8, 9, 10, 11, 12, 13, 14, 15, 16, 17, 18, 19, 20, 21, 22, 23, 24, 25, 26, 27, 28, 29, 30, 31, 32, 33, 34, 35, 36, 37, 38, 39, 40, 41, 42, 43, 44

## 62505021621
designator P?  (value not drawn)
WR-BHD Male Box Header, THT Straight, pitch 2 mm, 2 Rows, 50 Pins; Manufacturer: Wurth Elektronik; Contact Resistance: 20 mΩ; Insulation Resistance: 1000 MΩ; Pitch: 2 mm; Rated Current: 2 A; Working Voltage: 250 V; Withstanding Voltage: 500 V; Manufacturer Part Number: 62505021621; Category: Wire-to-Board Connector; Connectors.Match Code: WR-BHD; ComponentLink1Description: Website Link; ComponentLink1URL: https://www.we-online.com/redexpert/article/62505021621?ad; ComponentLink2Description: Datasheet Link; ComponentLink2URL: https://www.we-online.com/redexpert/spec/62505021621?ad; Mount: Through Hole; Min Operating Temperature: -40 °C; Max Operating Temperature: 125 °C; Packaging: Tray; Length: 57.2 mm; Width: 5.5 mm; Height: 5.6 mm; Gender: Male; Number of Pins: 50; Number of Rows: 2; Orientation: Straight
footprint 62505021621
pins: 1, 2, 3, 4, 5, 6, 7, 8, 9, 10, 11, 12, 13, 14, 15, 16, 17, 18, 19, 20, 21, 22, 23, 24, 25, 26, 27, 28, 29, 30, 31, 32, 33, 34, 35, 36, 37, 38, 39, 40, 41, 42, 43, 44, 45, 46, 47, 48, 49, 50

## 62505021721
designator P?  (value not drawn)
WR-BHD Male Box Header, THT Right Angle, pitch 2 mm, 2 Rows, 50 Pins; Manufacturer: Wurth Elektronik; Contact Resistance: 20 mΩ; Insulation Resistance: 1000 MΩ; Pitch: 2 mm; Rated Current: 2 A; Working Voltage: 250 V; Withstanding Voltage: 500 V; Manufacturer Part Number: 62505021721; Category: Wire-to-Board Connector; Connectors.Match Code: WR-BHD; ComponentLink1Description: Website Link; ComponentLink1URL: https://www.we-online.com/redexpert/article/62505021721?ad; ComponentLink2Description: Datasheet Link; ComponentLink2URL: https://www.we-online.com/redexpert/spec/62505021721?ad; Mount: Through Hole; Min Operating Temperature: -40 °C; Max Operating Temperature: 105 °C; Packaging: Tray; Length: 57.25 mm; Width: 8.45 mm; Height: 5.5 mm; Gender: Male; Number of Pins: 50; Number of Rows: 2; Orientation: Right Angle
footprint 62505021721
pins: 1, 2, 3, 4, 5, 6, 7, 8, 9, 10, 11, 12, 13, 14, 15, 16, 17, 18, 19, 20, 21, 22, 23, 24, 25, 26, 27, 28, 29, 30, 31, 32, 33, 34, 35, 36, 37, 38, 39, 40, 41, 42, 43, 44, 45, 46, 47, 48, 49, 50

## 62505022021
designator P?  (value not drawn)
WR-BHD Male Box Header, THT Straight, pitch 2 mm, 2 Rows, 50 Pins; Manufacturer: Wurth Elektronik; Contact Resistance: 20 mΩ; Insulation Resistance: 1000 MΩ; Pitch: 2 mm; Rated Current: 2 A; Working Voltage: 250 V; Withstanding Voltage: 500 V; Manufacturer Part Number: 62505022021; Category: Wire-to-Board Connector; Connectors.Match Code: WR-BHD; ComponentLink1Description: Website Link; ComponentLink1URL: https://www.we-online.com/redexpert/article/62505022021?ad; ComponentLink2Description: Datasheet Link; ComponentLink2URL: https://www.we-online.com/redexpert/spec/62505022021?ad; Mount: Through Hole; Min Operating Temperature: -40 °C; Max Operating Temperature: 105 °C; Packaging: Tray; Length: 65.7 mm; Width: 6 mm; Height: 16.85 mm; Gender: Male; Number of Pins: 50; Number of Rows: 2; Orientation: Straight
footprint 62505022021
pins: 1, 2, 3, 4, 5, 6, 7, 8, 9, 10, 11, 12, 13, 14, 15, 16, 17, 18, 19, 20, 21, 22, 23, 24, 25, 26, 27, 28, 29, 30, 31, 32, 33, 34, 35, 36, 37, 38, 39, 40, 41, 42, 43, 44, 45, 46, 47, 48, 49, 50

## 62505022121
designator P?  (value not drawn)
WR-BHD Male Box Header, THT Right Angle, pitch 2 mm, 2 Rows, 50 Pins; Manufacturer: Wurth Elektronik; Contact Resistance: 20 mΩ; Insulation Resistance: 1000 MΩ; Pitch: 2 mm; Rated Current: 2 A; Working Voltage: 250 V; Withstanding Voltage: 500 V; Manufacturer Part Number: 62505022121; Category: Wire-to-Board Connector; Connectors.Match Code: WR-BHD; ComponentLink1Description: Website Link; ComponentLink1URL: https://www.we-online.com/redexpert/article/62505022121?ad; ComponentLink2Description: Datasheet Link; ComponentLink2URL: https://www.we-online.com/redexpert/spec/62505022121?ad; Mount: Through Hole; Min Operating Temperature: -40 °C; Max Operating Temperature: 125 °C; Packaging: Tray; Length: 65.7 mm; Width: 16.85 mm; Height: 6 mm; Gender: Male; Number of Pins: 50; Number of Rows: 2; Orientation: Right Angle
footprint 62505022121
pins: 1, 2, 3, 4, 5, 6, 7, 8, 9, 10, 11, 12, 13, 14, 15, 16, 17, 18, 19, 20, 21, 22, 23, 24, 25, 26, 27, 28, 29, 30, 31, 32, 33, 34, 35, 36, 37, 38, 39, 40, 41, 42, 43, 44, 45, 46, 47, 48, 49, 50

## 62505022323
designator J?  (value not drawn)
WR-BHD Female Box Header, THT Straight, pitch 2 mm, 2 Rows, 50 Pins; Manufacturer: Wurth Elektronik; Contact Resistance: 20 mΩ; Insulation Resistance: 1000 MΩ; Pitch: 2 mm; Rated Current: 1 A; Working Voltage: 250 V; Withstanding Voltage: 500 V; Manufacturer Part Number: 62505022323; Category: Wire-to-Board Connector; Connectors.Match Code: WR-BHD; ComponentLink1Description: Website Link; ComponentLink1URL: https://www.we-online.com/redexpert/article/62505022323?ad; ComponentLink2Description: Datasheet Link; ComponentLink2URL: https://www.we-online.com/redexpert/spec/62505022323?ad; Mount: Through Hole; Min Operating Temperature: -40 °C; Max Operating Temperature: 125 °C; Packaging: Tray; Length: 54.1 mm; Width: 4 mm; Height: 5.3 mm; Gender: Female; Number of Pins: 50; Number of Rows: 2; Orientation: Straight
footprint 62505022323
pins: 1, 2, 3, 4, 5, 6, 7, 8, 9, 10, 11, 12, 13, 14, 15, 16, 17, 18, 19, 20, 21, 22, 23, 24, 25, 26, 27, 28, 29, 30, 31, 32, 33, 34, 35, 36, 37, 38, 39, 40, 41, 42, 43, 44, 45, 46, 47, 48, 49, 50

## 62531020621
designator P?  (value not drawn)
WR-BHD Male Box Header, SMT Straight, pitch 2 mm, 2 Rows, 10 Pins; Manufacturer: Wurth Elektronik; Contact Resistance: 20 mΩ; Insulation Resistance: 1000 MΩ; Pitch: 2 mm; Rated Current: 2 A; Working Voltage: 250 V; Withstanding Voltage: 500 V; Manufacturer Part Number: 62531020621; Category: Wire-to-Board Connector; Connectors.Match Code: WR-BHD; ComponentLink1Description: Website Link; ComponentLink1URL: https://www.we-online.com/redexpert/article/62531020621?ad; ComponentLink2Description: Datasheet Link; ComponentLink2URL: https://www.we-online.com/redexpert/spec/62531020621?ad; Mount: Surface Mount; Min Operating Temperature: -40 °C; Max Operating Temperature: 105 °C; Packaging: Tape and Reel with Cap; Length: 17.25 mm; Width: 5.5 mm; Height: 6.8 mm; Gender: Male; Number of Pins: 10; Number of Rows: 2; Orientation: Straight
footprint 62531020621
pins: 1, 2, 3, 4, 5, 6, 7, 8, 9, 10

## 62531420621
designator P?  (value not drawn)
WR-BHD Male Box Header, SMT Straight, pitch 2 mm, 2 Rows, 14 Pins; Manufacturer: Wurth Elektronik; Contact Resistance: 20 mΩ; Insulation Resistance: 1000 MΩ; Pitch: 2 mm; Rated Current: 2 A; Working Voltage: 250 V; Withstanding Voltage: 500 V; Manufacturer Part Number: 62531420621; Category: Wire-to-Board Connector; Connectors.Match Code: WR-BHD; ComponentLink1Description: Website Link; ComponentLink1URL: https://www.we-online.com/redexpert/article/62531420621?ad; ComponentLink2Description: Datasheet Link; ComponentLink2URL: https://www.we-online.com/redexpert/spec/62531420621?ad; Mount: Surface Mount; Min Operating Temperature: -40 °C; Max Operating Temperature: 105 °C; Packaging: Tape and Reel with Cap; Length: 21.25 mm; Width: 5.5 mm; Height: 6.8 mm; Gender: Male; Number of Pins: 14; Number of Rows: 2; Orientation: Straight
footprint 62531420621
pins: 1, 2, 3, 4, 5, 6, 7, 8, 9, 10, 11, 12, 13, 14

## 62531620621
designator P?  (value not drawn)
WR-BHD Male Box Header, SMT Straight, pitch 2 mm, 2 Rows, 16 Pins; Manufacturer: Wurth Elektronik; Contact Resistance: 20 mΩ; Insulation Resistance: 1000 MΩ; Pitch: 2 mm; Rated Current: 2 A; Working Voltage: 250 V; Withstanding Voltage: 500 V; Manufacturer Part Number: 62531620621; Category: Wire-to-Board Connector; Connectors.Match Code: WR-BHD; ComponentLink1Description: Website Link; ComponentLink1URL: https://www.we-online.com/redexpert/article/62531620621?ad; ComponentLink2Description: Datasheet Link; ComponentLink2URL: https://www.we-online.com/redexpert/spec/62531620621?ad; Mount: Surface Mount; Min Operating Temperature: -40 °C; Max Operating Temperature: 105 °C; Packaging: Tape and Reel with Cap; Length: 23.25 mm; Width: 5.5 mm; Height: 6.8 mm; Gender: Male; Number of Pins: 16; Number of Rows: 2; Orientation: Straight
footprint 62531620621
pins: 1, 2, 3, 4, 5, 6, 7, 8, 9, 10, 11, 12, 13, 14, 15, 16

## 62532020621
designator P?  (value not drawn)
WR-BHD Male Box Header, SMT Straight, pitch 2 mm, 2 Rows, 20 Pins; Manufacturer: Wurth Elektronik; Contact Resistance: 20 mΩ; Insulation Resistance: 1000 MΩ; Pitch: 2 mm; Rated Current: 2 A; Working Voltage: 250 V; Withstanding Voltage: 500 V; Manufacturer Part Number: 62532020621; Category: Wire-to-Board Connector; Connectors.Match Code: WR-BHD; ComponentLink1Description: Website Link; ComponentLink1URL: https://www.we-online.com/redexpert/article/62532020621?ad; ComponentLink2Description: Datasheet Link; ComponentLink2URL: https://www.we-online.com/redexpert/spec/62532020621?ad; Mount: Surface Mount; Min Operating Temperature: -40 °C; Max Operating Temperature: 105 °C; Packaging: Tape and Reel with Cap; Length: 27.25 mm; Width: 5.5 mm; Height: 6.8 mm; Gender: Male; Number of Pins: 20; Number of Rows: 2; Orientation: Straight
footprint 62532020621
pins: 1, 2, 3, 4, 5, 6, 7, 8, 9, 10, 11, 12, 13, 14, 15, 16, 17, 18, 19, 20

## 62532620621
designator P?  (value not drawn)
WR-BHD Male Box Header, SMT Straight, pitch 2 mm, 2 Rows, 26 Pins; Manufacturer: Wurth Elektronik; Contact Resistance: 20 mΩ; Insulation Resistance: 1000 MΩ; Pitch: 2 mm; Rated Current: 2 A; Working Voltage: 250 V; Withstanding Voltage: 500 V; Manufacturer Part Number: 62532620621; Category: Wire-to-Board Connector; Connectors.Match Code: WR-BHD; ComponentLink1Description: Website Link; ComponentLink1URL: https://www.we-online.com/redexpert/article/62532620621?ad; ComponentLink2Description: Datasheet Link; ComponentLink2URL: https://www.we-online.com/redexpert/spec/62532620621?ad; Mount: Surface Mount; Min Operating Temperature: -40 °C; Max Operating Temperature: 105 °C; Packaging: Tape and Reel with Cap; Length: 33.25 mm; Width: 5.5 mm; Height: 6.8 mm; Gender: Male; Number of Pins: 26; Number of Rows: 2; Orientation: Straight
footprint 62532620621
pins: 1, 2, 3, 4, 5, 6, 7, 8, 9, 10, 11, 12, 13, 14, 15, 16, 17, 18, 19, 20, 21, 22, 23, 24, 25, 26

## 62533020621
designator P?  (value not drawn)
WR-BHD Male Box Header, SMT Straight, pitch 2 mm, 2 Rows, 30 Pins; Manufacturer: Wurth Elektronik; Contact Resistance: 20 mΩ; Insulation Resistance: 1000 MΩ; Pitch: 2 mm; Rated Current: 2 A; Working Voltage: 250 V; Withstanding Voltage: 500 V; Manufacturer Part Number: 62533020621; Category: Wire-to-Board Connector; Connectors.Match Code: WR-BHD; ComponentLink1Description: Website Link; ComponentLink1URL: https://www.we-online.com/redexpert/article/62533020621?ad; ComponentLink2Description: Datasheet Link; ComponentLink2URL: https://www.we-online.com/redexpert/spec/62533020621?ad; Mount: Surface Mount; Min Operating Temperature: -40 °C; Max Operating Temperature: 105 °C; Packaging: Tape and Reel with Cap; Length: 37.25 mm; Width: 5.5 mm; Height: 6.8 mm; Gender: Male; Number of Pins: 30; Number of Rows: 2; Orientation: Straight
footprint 62533020621
pins: 1, 2, 3, 4, 5, 6, 7, 8, 9, 10, 11, 12, 13, 14, 15, 16, 17, 18, 19, 20, 21, 22, 23, 24, 25, 26, 27, 28, 29, 30

## 62533420621
designator P?  (value not drawn)
WR-BHD Male Box Header, SMT Straight, pitch 2 mm, 2 Rows, 34 Pins; Manufacturer: Wurth Elektronik; Contact Resistance: 20 mΩ; Insulation Resistance: 1000 MΩ; Pitch: 2 mm; Rated Current: 2 A; Working Voltage: 250 V; Withstanding Voltage: 500 V; Manufacturer Part Number: 62533420621; Category: Wire-to-Board Connector; Connectors.Match Code: WR-BHD; ComponentLink1Description: Website Link; ComponentLink1URL: https://www.we-online.com/redexpert/article/62533420621?ad; ComponentLink2Description: Datasheet Link; ComponentLink2URL: https://www.we-online.com/redexpert/spec/62533420621?ad; Mount: Surface Mount; Min Operating Temperature: -40 °C; Max Operating Temperature: 105 °C; Packaging: Tape and Reel with Cap; Length: 41.25 mm; Width: 5.5 mm; Height: 6.8 mm; Gender: Male; Number of Pins: 34; Number of Rows: 2; Orientation: Straight
footprint 62533420621
pins: 1, 2, 3, 4, 5, 6, 7, 8, 9, 10, 11, 12, 13, 14, 15, 16, 17, 18, 19, 20, 21, 22, 23, 24, 25, 26, 27, 28, 29, 30, 31, 32, 33, 34

## 62534020621
designator P?  (value not drawn)
WR-BHD Male Box Header, SMT Straight, pitch 2 mm, 2 Rows, 40 Pins; Manufacturer: Wurth Elektronik; Contact Resistance: 20 mΩ; Insulation Resistance: 1000 MΩ; Pitch: 2 mm; Rated Current: 2 A; Working Voltage: 250 V; Withstanding Voltage: 500 V; Manufacturer Part Number: 62534020621; Category: Wire-to-Board Connector; Connectors.Match Code: WR-BHD; ComponentLink1Description: Website Link; ComponentLink1URL: https://www.we-online.com/redexpert/article/62534020621?ad; ComponentLink2Description: Datasheet Link; ComponentLink2URL: https://www.we-online.com/redexpert/spec/62534020621?ad; Mount: Surface Mount; Min Operating Temperature: -40 °C; Max Operating Temperature: 105 °C; Packaging: Tape and Reel with Cap; Length: 47.25 mm; Width: 5.5 mm; Height: 6.8 mm; Gender: Male; Number of Pins: 40; Number of Rows: 2; Orientation: Straight
footprint 62534020621
pins: 1, 2, 3, 4, 5, 6, 7, 8, 9, 10, 11, 12, 13, 14, 15, 16, 17, 18, 19, 20, 21, 22, 23, 24, 25, 26, 27, 28, 29, 30, 31, 32, 33, 34, 35, 36, 37, 38, 39, 40

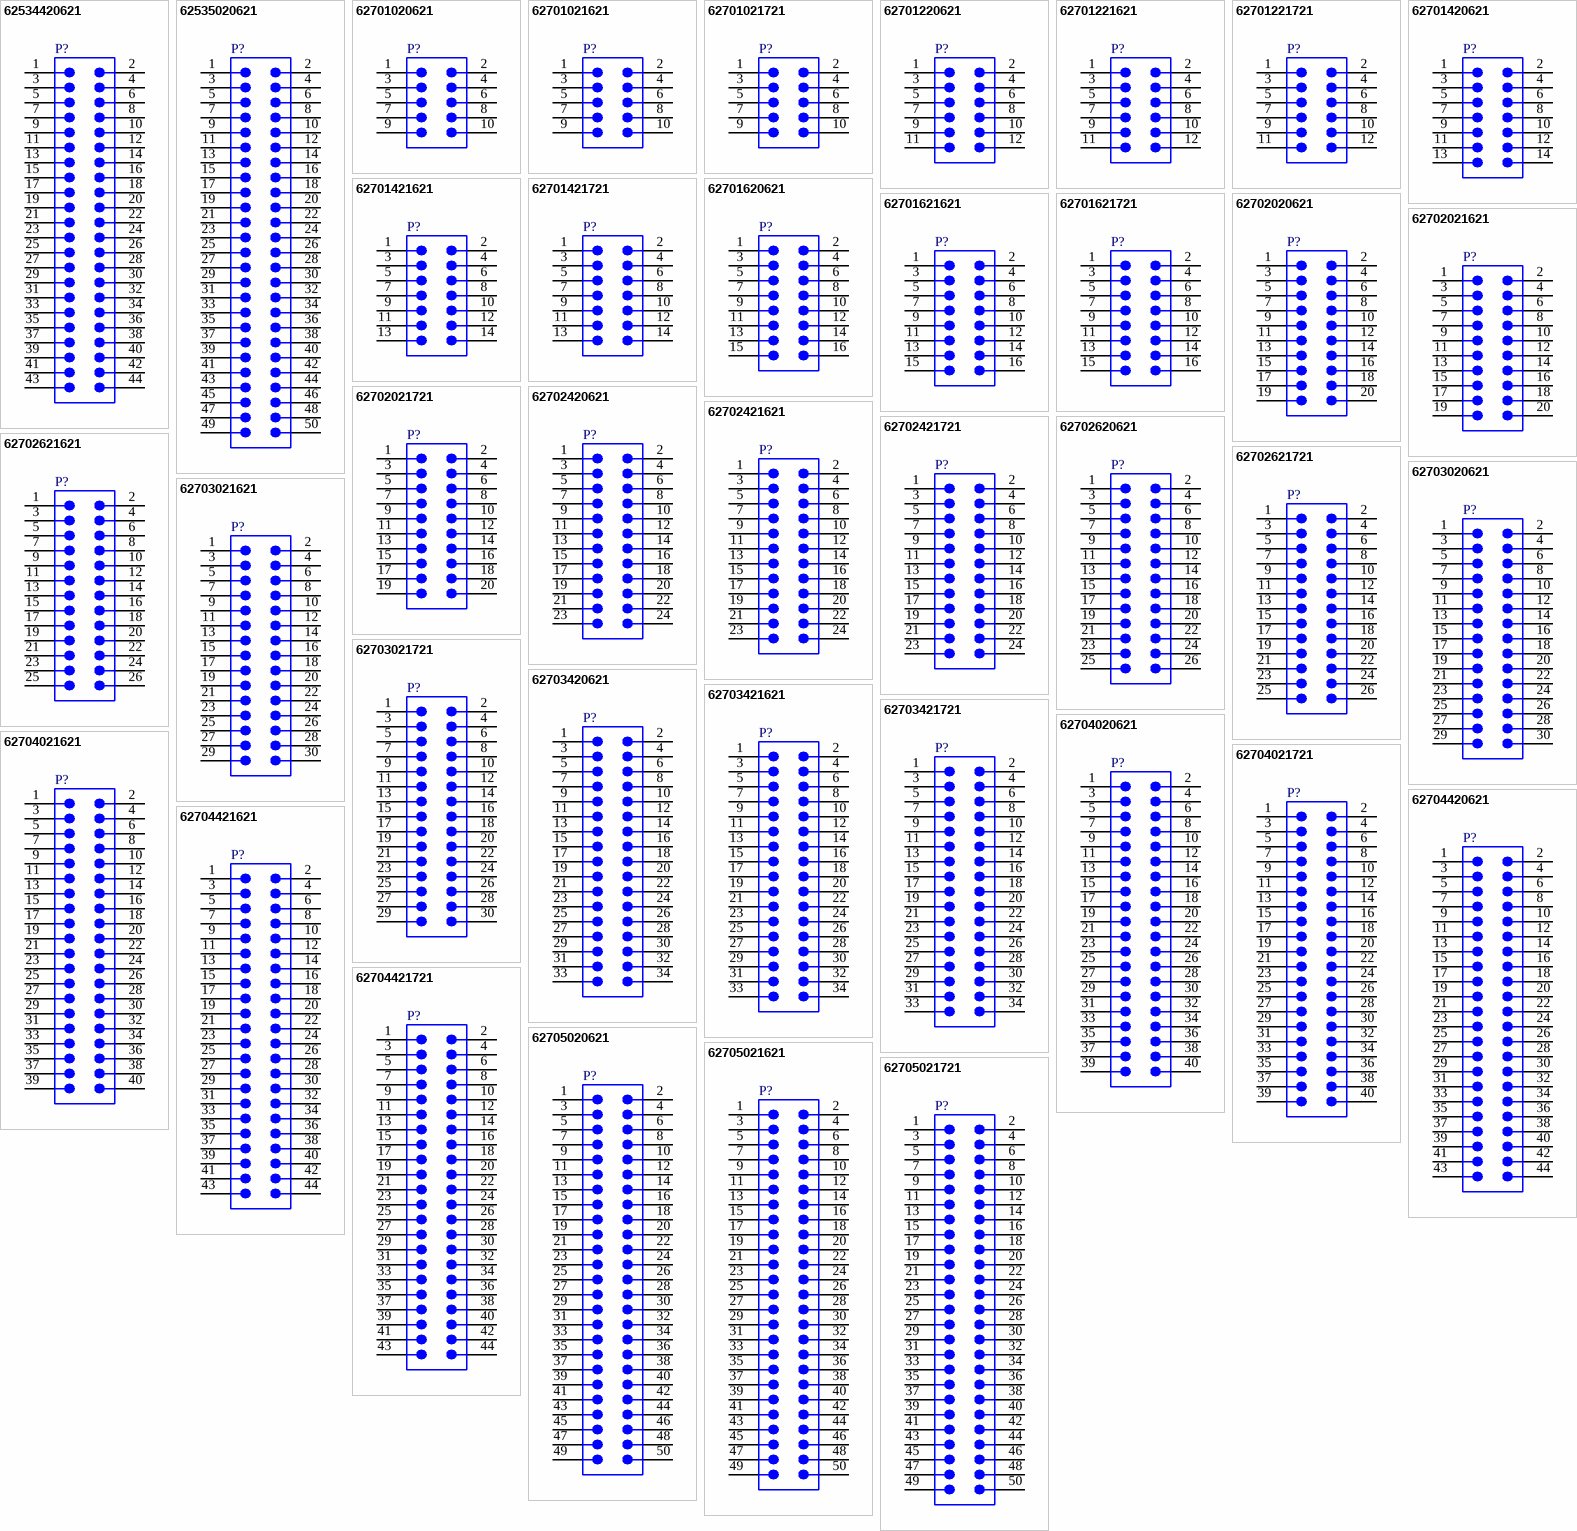
[diagram p4: symbols 62534420621 to 62705021721]